# EAGLE library part RJ45-8 (library J-RJ45)
RJ45 Jack RJ45J [ASSMANN,A-2014-2-4-R] JACK MODULAR VERT PCB 8P8C UNSHIELD Horz version form sparkfun sku PRT-00643, and breakout board sku is BOB-00716.
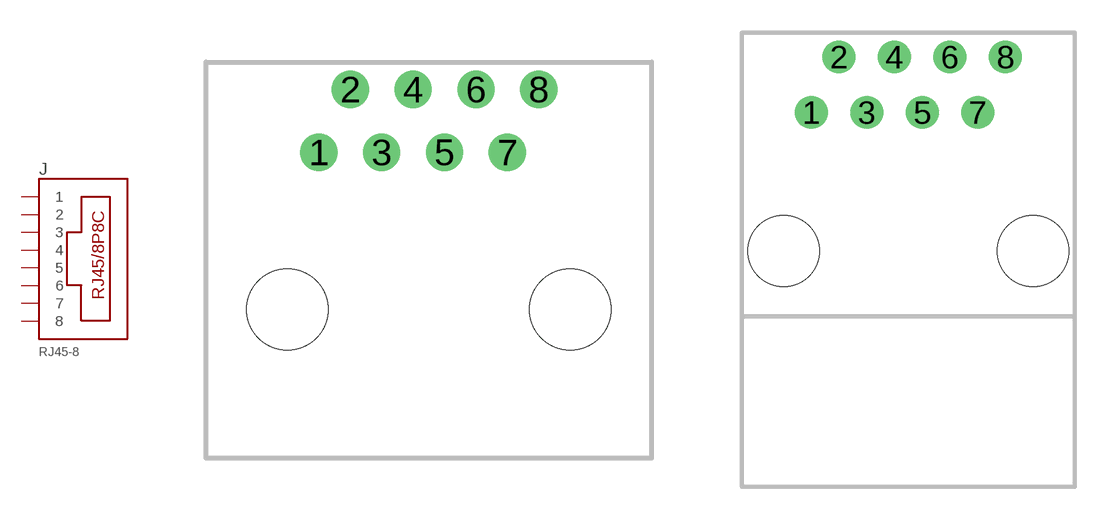
[diagram p0: symbol with the pads of RJ45-8HZT; footprints RJ45-8HZT, RJ45-8VRT]

Designator prefix J

## RJ45-8HZT  [RJ45-8HZT]
1  1
2  2
3  3
4  4
5  5
6  6
7  7
8  8

## RJ45-8VRT  [RJ45-8VRT]
Pads as for RJ45-8HZT

## Footprint RJ45-8HZT (pad centres in mm)
RJ45J [ASSMANN,A-2014-2-4-R] JACK MODULAR VERT PCB 8P8C UNSHIELD mount hole was 3.2mm but that is an odd size that got rounded down to .125" so the hole is now dril size 30 (.1285") and I hope it does not get rounded down...
drill 1: 1 -4.445,6.35; 2 -3.175,8.89; 3 -1.905,6.35; 4 -0.635,8.89; 5 0.635,6.35; 6 1.905,8.89; 7 3.175,6.35; 8 4.445,8.89
hole 3.264 at -5.715,0
hole 3.264 at 5.715,0

## Footprint RJ45-8VRT (pad centres in mm)
RJ45J [ASSMANN,A-2014-2-4-R] JACK MODULAR VERT PCB 8P8C UNSHIELD mount hole was 3.2mm but that is an odd size that got rounded down to .125" so the hole is now dril size 30 (.1285") and I hope it does not get rounded down...
drill 1: 1 -4.445,6.35; 2 -3.175,8.89; 3 -1.905,6.35; 4 -0.635,8.89; 5 0.635,6.35; 6 1.905,8.89; 7 3.175,6.35; 8 4.445,8.89
hole 3.264 at -5.715,0
hole 3.264 at 5.715,0